# EAGLE library part TPS61200DRCT (library NEWARK)
A SWITCHES
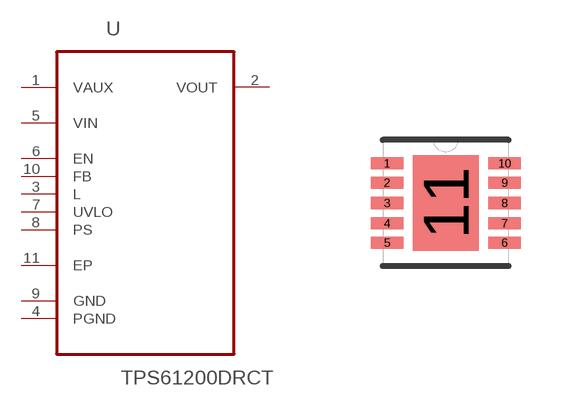
[diagram p2: symbol with the pads of SON50P300X300X100-11N; footprint SON50P300X300X100-11N]

Designator prefix U

## TPS61200DRCTSON-10 (MPN: TPS61200DRCT; OC_FARNELL: 1471238; OC_NEWARK: 37M0066; PACKAGE: SON-10; SUPPLIER: TEXAS INSTRUMENTS)  [SON50P300X300X100-11N]
1  VAUX
2  VOUT  out
3  L  in
4  PGND  pas
5  VIN  in
6  EN  in
7  UVLO  in
8  PS  in
9  GND  pas
10  FB  in
11  EP  pas

## Footprint SON50P300X300X100-11N (pad centres in mm)
smd 0.813 x 0.305: 1 -1.473,0.991; 2 -1.473,0.508; 3 -1.473,0; 4 -1.473,-0.508; 5 -1.473,-0.991; 6 1.473,-0.991; 7 1.473,-0.508; 8 1.473,0; 9 1.473,0.508; 10 1.473,0.991
smd 1.651 x 2.388: 11 0,0